# Altium schematic symbol library Memory_EPROM.SchLib: 13 symbols
Pins are listed as number, name and electrical type; pins without a type are passive.

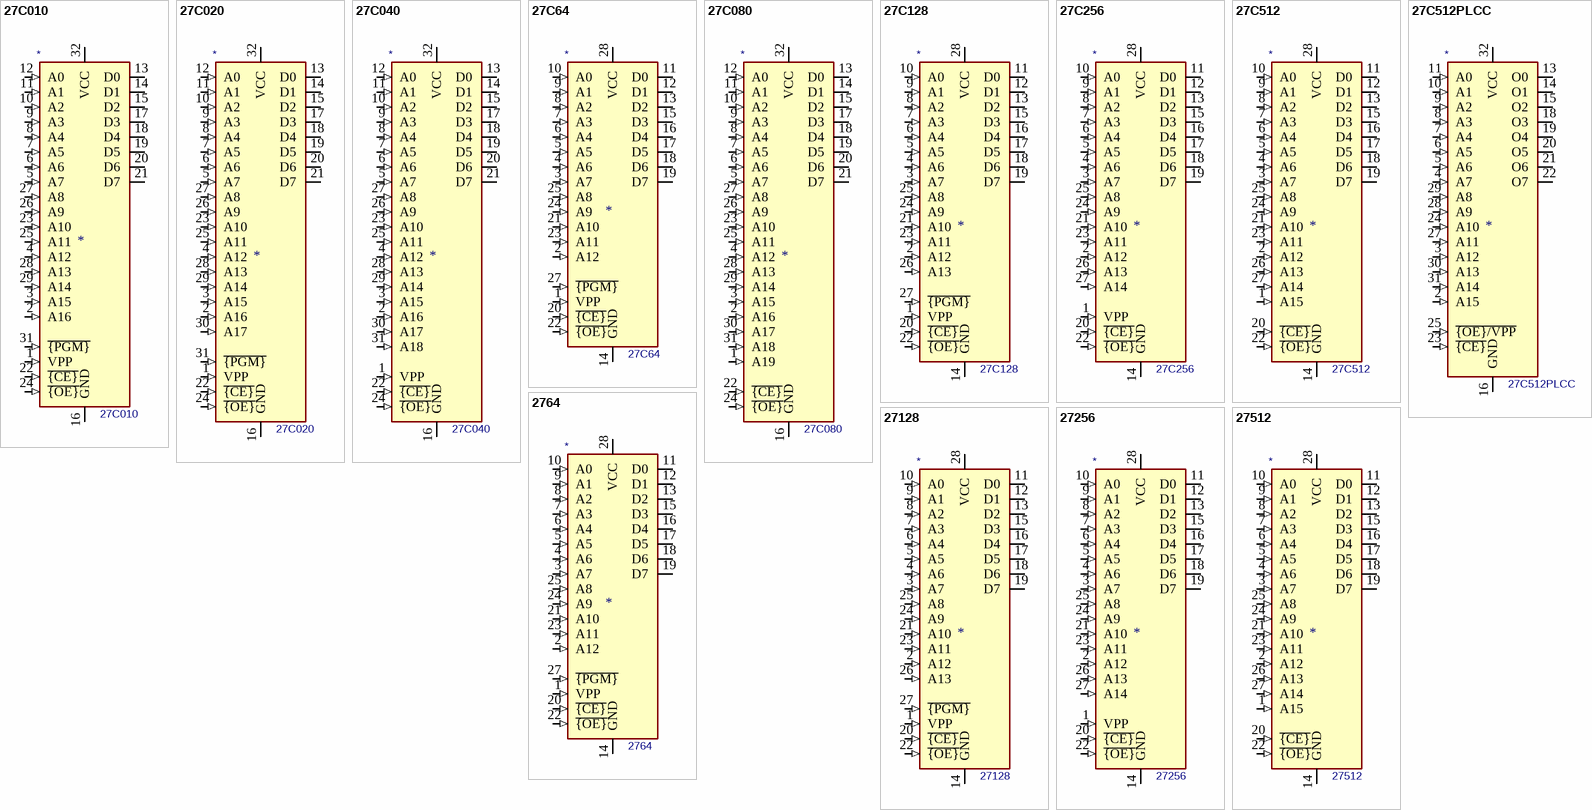
[diagram p0: symbols 27C010 to 27512]

## 27C010
designator *  value 27C010
ki_keywords: OTP EPROM 1MiBit; ki_description: OTP EPROM 1 MiBit (128 Ki x 8 Bit); ki_fp_filters: DIP*W15.24mm* PLCC*; Supplier: http://ww1.microchip.com/downloads/en/DeviceDoc/doc0321.pdf
pins: 1 VPP (in), 2 A16 (in), 3 A15 (in), 4 A12 (in), 5 A7 (in), 6 A6 (in), 7 A5 (in), 8 A4 (in), 9 A3 (in), 10 A2 (in), 11 A1 (in), 12 A0 (in), 13 D0 (hiz), 14 D1 (hiz), 15 D2 (hiz), 16 GND (power), 17 D3 (hiz), 18 D4 (hiz), 19 D5 (hiz), 20 D6 (hiz), 21 D7 (hiz), 22 ~{{CE}} (in), 23 A10 (in), 24 ~{{OE}} (in), 25 A11 (in), 26 A9 (in), 27 A8 (in), 28 A13 (in), 29 A14 (in), 31 ~{{PGM}} (in), 32 VCC (power)

## 27C020
designator *  value 27C020
ki_keywords: OTP EPROM 2MiBit; ki_description: OTP EPROM 2 MiBit (256 Ki x 8 Bit); ki_fp_filters: DIP*W15.24mm* PLCC*; Supplier: http://ww1.microchip.com/downloads/en/devicedoc/doc0570.pdf
pins: 1 VPP (in), 2 A16 (in), 3 A15 (in), 4 A12 (in), 5 A7 (in), 6 A6 (in), 7 A5 (in), 8 A4 (in), 9 A3 (in), 10 A2 (in), 11 A1 (in), 12 A0 (in), 13 D0 (hiz), 14 D1 (hiz), 15 D2 (hiz), 16 GND (power), 17 D3 (hiz), 18 D4 (hiz), 19 D5 (hiz), 20 D6 (hiz), 21 D7 (hiz), 22 ~{{CE}} (in), 23 A10 (in), 24 ~{{OE}} (in), 25 A11 (in), 26 A9 (in), 27 A8 (in), 28 A13 (in), 29 A14 (in), 30 A17 (in), 31 ~{{PGM}} (in), 32 VCC (power)

## 27C040
designator *  value 27C040
ki_keywords: OTP EPROM 4MiBit; ki_description: OTP EPROM 4 MiBit (512 Ki x 8); ki_fp_filters: DIP*W15.24mm* PLCC*; Supplier: http://ww1.microchip.com/downloads/en/devicedoc/doc0189.pdf
pins: 1 VPP (in), 2 A16 (in), 3 A15 (in), 4 A12 (in), 5 A7 (in), 6 A6 (in), 7 A5 (in), 8 A4 (in), 9 A3 (in), 10 A2 (in), 11 A1 (in), 12 A0 (in), 13 D0 (hiz), 14 D1 (hiz), 15 D2 (hiz), 16 GND (power), 17 D3 (hiz), 18 D4 (hiz), 19 D5 (hiz), 20 D6 (hiz), 21 D7 (hiz), 22 ~{{CE}} (in), 23 A10 (in), 24 ~{{OE}} (in), 25 A11 (in), 26 A9 (in), 27 A8 (in), 28 A13 (in), 29 A14 (in), 30 A17 (in), 31 A18 (in), 32 VCC (power)

## 27C64
designator *  value 27C64
ki_keywords: OTP EPROM 64KiBit; ki_description: OTP EPROM 64 KiBit, [Obsolete 2004-01]; ki_fp_filters: DIP*W15.24mm*; Footprint: Package_DIP:DIP-28_W15.24mm; Supplier: http://ww1.microchip.com/downloads/en/DeviceDoc/11107M.pdf
footprint DIP-28_W15.24mm
pins: 1 VPP (in), 2 A12 (in), 3 A7 (in), 4 A6 (in), 5 A5 (in), 6 A4 (in), 7 A3 (in), 8 A2 (in), 9 A1 (in), 10 A0 (in), 11 D0 (hiz), 12 D1 (hiz), 13 D2 (hiz), 14 GND (power), 15 D3 (hiz), 16 D4 (hiz), 17 D5 (hiz), 18 D6 (hiz), 19 D7 (hiz), 20 ~{{CE}} (in), 21 A10 (in), 22 ~{{OE}} (in), 23 A11 (in), 24 A9 (in), 25 A8 (in), 26 NC (in) hidden, 27 ~{{PGM}} (in), 28 VCC (power)

## 27C080
designator *  value 27C080
ki_keywords: OTP EPROM 8MiBit; ki_description: OTP EPROM 8 MiBit (1 Mi x 8); ki_fp_filters: DIP*W15.24mm* PLCC*; Supplier: http://ww1.microchip.com/downloads/en/devicedoc/doc0360.pdf
pins: 1 A19 (in), 2 A16 (in), 3 A15 (in), 4 A12 (in), 5 A7 (in), 6 A6 (in), 7 A5 (in), 8 A4 (in), 9 A3 (in), 10 A2 (in), 11 A1 (in), 12 A0 (in), 13 D0 (hiz), 14 D1 (hiz), 15 D2 (hiz), 16 GND (power), 17 D3 (hiz), 18 D4 (hiz), 19 D5 (hiz), 20 D6 (hiz), 21 D7 (hiz), 22 ~{{CE}} (in), 23 A10 (in), 24 ~{{OE}} (in), 25 A11 (in), 26 A9 (in), 27 A8 (in), 28 A13 (in), 29 A14 (in), 30 A17 (in), 31 A18 (in), 32 VCC (power)

## 27C128
designator *  value 27C128
ki_keywords: OTP EPROM 128KiBit; ki_description: OTP EPROM 128 KiBit, [Obsolete 2004-01]; ki_fp_filters: DIP*W15.24mm*; Footprint: Package_DIP:DIP-28_W15.24mm; Supplier: http://ww1.microchip.com/downloads/en/devicedoc/11003L.pdf
footprint DIP-28_W15.24mm
pins: 1 VPP (in), 2 A12 (in), 3 A7 (in), 4 A6 (in), 5 A5 (in), 6 A4 (in), 7 A3 (in), 8 A2 (in), 9 A1 (in), 10 A0 (in), 11 D0 (hiz), 12 D1 (hiz), 13 D2 (hiz), 14 GND (power), 15 D3 (hiz), 16 D4 (hiz), 17 D5 (hiz), 18 D6 (hiz), 19 D7 (hiz), 20 ~{{CE}} (in), 21 A10 (in), 22 ~{{OE}} (in), 23 A11 (in), 24 A9 (in), 25 A8 (in), 26 A13 (in), 27 ~{{PGM}} (in), 28 VCC (power)

## 27C256
designator *  value 27C256
ki_keywords: OTP EPROM 256 KiBit; ki_fp_filters: DIP*W15.24mm*; Footprint: Package_DIP:DIP-28_W15.24mm; Supplier: http://ww1.microchip.com/downloads/en/DeviceDoc/doc0014.pdf; ki_description: OTP EPROM 256 KiBit
footprint DIP-28_W15.24mm
pins: 1 VPP (in), 2 A12 (in), 3 A7 (in), 4 A6 (in), 5 A5 (in), 6 A4 (in), 7 A3 (in), 8 A2 (in), 9 A1 (in), 10 A0 (in), 11 D0 (hiz), 12 D1 (hiz), 13 D2 (hiz), 14 GND (power), 15 D3 (hiz), 16 D4 (hiz), 17 D5 (hiz), 18 D6 (hiz), 19 D7 (hiz), 20 ~{{CE}} (in), 21 A10 (in), 22 ~{{OE}} (in), 23 A11 (in), 24 A9 (in), 25 A8 (in), 26 A13 (in), 27 A14 (in), 28 VCC (power)

## 27C512
designator *  value 27C512
ki_keywords: OTP EPROM 512KiBit; ki_description: OTP EPROM 512 KiBit; ki_fp_filters: DIP*W15.24mm*; Footprint: Package_DIP:DIP-28_W15.24mm; Supplier: http://ww1.microchip.com/downloads/en/DeviceDoc/doc0015.pdf
footprint DIP-28_W15.24mm
pins: 1 A15 (in), 2 A12 (in), 3 A7 (in), 4 A6 (in), 5 A5 (in), 6 A4 (in), 7 A3 (in), 8 A2 (in), 9 A1 (in), 10 A0 (in), 11 D0 (hiz), 12 D1 (hiz), 13 D2 (hiz), 14 GND (power), 15 D3 (hiz), 16 D4 (hiz), 17 D5 (hiz), 18 D6 (hiz), 19 D7 (hiz), 20 ~{{CE}} (in), 21 A10 (in), 22 ~{{OE}} (in), 23 A11 (in), 24 A9 (in), 25 A8 (in), 26 A13 (in), 27 A14 (in), 28 VCC (power)

## 27C512PLCC
designator *  value 27C512PLCC
ki_keywords: OTP EPROM 512KiBit; ki_description: OTP EPROM 512 KiBit PLCC-32; ki_fp_filters: PLCC?32*11.4x14.0mm*P1.27mm*; Footprint: Package_LCC:PLCC-32_11.4x14.0mm_P1.27mm; Supplier: http://ww1.microchip.com/downloads/en/DeviceDoc/doc0015.pdf
footprint PLCC-32_11.4x14.0mm_P1.27mm
pins: 1 NC (in) hidden, 2 A15 (in), 3 A12 (in), 4 A7 (in), 5 A6 (in), 6 A5 (in), 7 A4 (in), 8 A3 (in), 9 A2 (in), 10 A1 (in), 11 A0 (in), 12 NC (in) hidden, 13 O0 (hiz), 14 O1 (hiz), 15 O2 (hiz), 16 GND (power), 17 NC (in) hidden, 18 O3 (hiz), 19 O4 (hiz), 20 O5 (hiz), 21 O6 (hiz), 22 O7 (hiz), 23 ~{{CE}} (in), 24 A10 (in), 25 ~{{OE}/VPP} (in), 26 NC (in) hidden, 27 A11 (in), 28 A9 (in), 29 A8 (in), 30 A13 (in), 31 A14 (in), 32 VCC (power)

## 2764
designator *  value 2764
ki_keywords: EPROM 64KiBit; ki_description: EPROM 64 KiBit, [Obsolete 2000-11]; ki_fp_filters: DIP*W15.24mm*; Footprint: Package_DIP:DIP-28_W15.24mm; Supplier: https://downloads.reactivemicro.com/Electronics/ROM/2764%20EPROM.pdf
footprint DIP-28_W15.24mm
pins: 1 VPP (in), 2 A12 (in), 3 A7 (in), 4 A6 (in), 5 A5 (in), 6 A4 (in), 7 A3 (in), 8 A2 (in), 9 A1 (in), 10 A0 (in), 11 D0 (hiz), 12 D1 (hiz), 13 D2 (hiz), 14 GND (power), 15 D3 (hiz), 16 D4 (hiz), 17 D5 (hiz), 18 D6 (hiz), 19 D7 (hiz), 20 ~{{CE}} (in), 21 A10 (in), 22 ~{{OE}} (in), 23 A11 (in), 24 A9 (in), 25 A8 (in), 26 NC (in) hidden, 27 ~{{PGM}} (in), 28 VCC (power)

## 27128
designator *  value 27128
ki_keywords: Erasable OTP EPROM 128KiBit; ki_description: UV Erasable EPROM 128 KiBit, [Obsolete 2000-11]; ki_fp_filters: DIP*W15.24mm*; Footprint: Package_DIP:DIP-28_W15.24mm; Supplier: http://eeshop.unl.edu/pdf/27128.pdf
footprint DIP-28_W15.24mm
pins: 1 VPP (in), 2 A12 (in), 3 A7 (in), 4 A6 (in), 5 A5 (in), 6 A4 (in), 7 A3 (in), 8 A2 (in), 9 A1 (in), 10 A0 (in), 11 D0 (hiz), 12 D1 (hiz), 13 D2 (hiz), 14 GND (power), 15 D3 (hiz), 16 D4 (hiz), 17 D5 (hiz), 18 D6 (hiz), 19 D7 (hiz), 20 ~{{CE}} (in), 21 A10 (in), 22 ~{{OE}} (in), 23 A11 (in), 24 A9 (in), 25 A8 (in), 26 A13 (in), 27 ~{{PGM}} (in), 28 VCC (power)

## 27256
designator *  value 27256
ki_keywords: Erasable EPROM 256 KiBit; ki_description: UV Erasable EPROM 256 KiBit, [Obsolete 2000-11]; ki_fp_filters: DIP*W15.24mm*; Footprint: Package_DIP:DIP-28_W15.24mm; Supplier: http://datasheet.octopart.com/D27256-2-Intel-datasheet-17852618.pdf
footprint DIP-28_W15.24mm
pins: 1 VPP (in), 2 A12 (in), 3 A7 (in), 4 A6 (in), 5 A5 (in), 6 A4 (in), 7 A3 (in), 8 A2 (in), 9 A1 (in), 10 A0 (in), 11 D0 (hiz), 12 D1 (hiz), 13 D2 (hiz), 14 GND (power), 15 D3 (hiz), 16 D4 (hiz), 17 D5 (hiz), 18 D6 (hiz), 19 D7 (hiz), 20 ~{{CE}} (in), 21 A10 (in), 22 ~{{OE}} (in), 23 A11 (in), 24 A9 (in), 25 A8 (in), 26 A13 (in), 27 A14 (in), 28 VCC (power)

## 27512
designator *  value 27512
ki_keywords: Erasable EPROM 512KiBit; ki_description: UV Erasable EPROM 512 KiBit, [Obsolete 2007-01]; ki_fp_filters: DIP*W15.24mm*; Footprint: Package_DIP:DIP-28_W15.24mm; Supplier: http://pdf.datasheetcatalog.com/datasheets/120/227190_DS.pdf
footprint DIP-28_W15.24mm
pins: 1 A15 (in), 2 A12 (in), 3 A7 (in), 4 A6 (in), 5 A5 (in), 6 A4 (in), 7 A3 (in), 8 A2 (in), 9 A1 (in), 10 A0 (in), 11 D0 (hiz), 12 D1 (hiz), 13 D2 (hiz), 14 GND (power), 15 D3 (hiz), 16 D4 (hiz), 17 D5 (hiz), 18 D6 (hiz), 19 D7 (hiz), 20 ~{{CE}} (in), 21 A10 (in), 22 ~{{OE}} (in), 23 A11 (in), 24 A9 (in), 25 A8 (in), 26 A13 (in), 27 A14 (in), 28 VCC (power)